# Altium schematic symbol library SCH - POWER - SWITCHMODE - TI TPS61085T_DGK_8.SchLib: 1 symbol
Pins are listed as number, name and electrical type; pins without a type are passive.

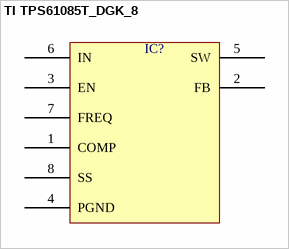
[diagram p0: symbol TI TPS61085T_DGK_8]

## TI TPS61085T_DGK_8
designator IC?  (value not drawn)
pins: 1 COMP, 2 FB, 3 EN, 4 PGND, 5 SW, 6 IN, 7 FREQ, 8 SS